# Altium schematic symbol library A4950.SchLib: 1 symbol
Pins are listed as number, name and electrical type; pins without a type are passive.

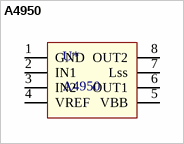
[diagram p0: symbol A4950]

## A4950
designator U*
pins: 1 GND, 2 IN1, 3 IN2, 4 VREF, 5 VBB, 6 OUT1, 7 Lss, 8 OUT2